# Altium schematic symbol library Wurth_Elektronik_Electromechanic_Wire_to_Board_Connectors_rev16a.SCHLIB: 662 symbols (part 8 of 10)
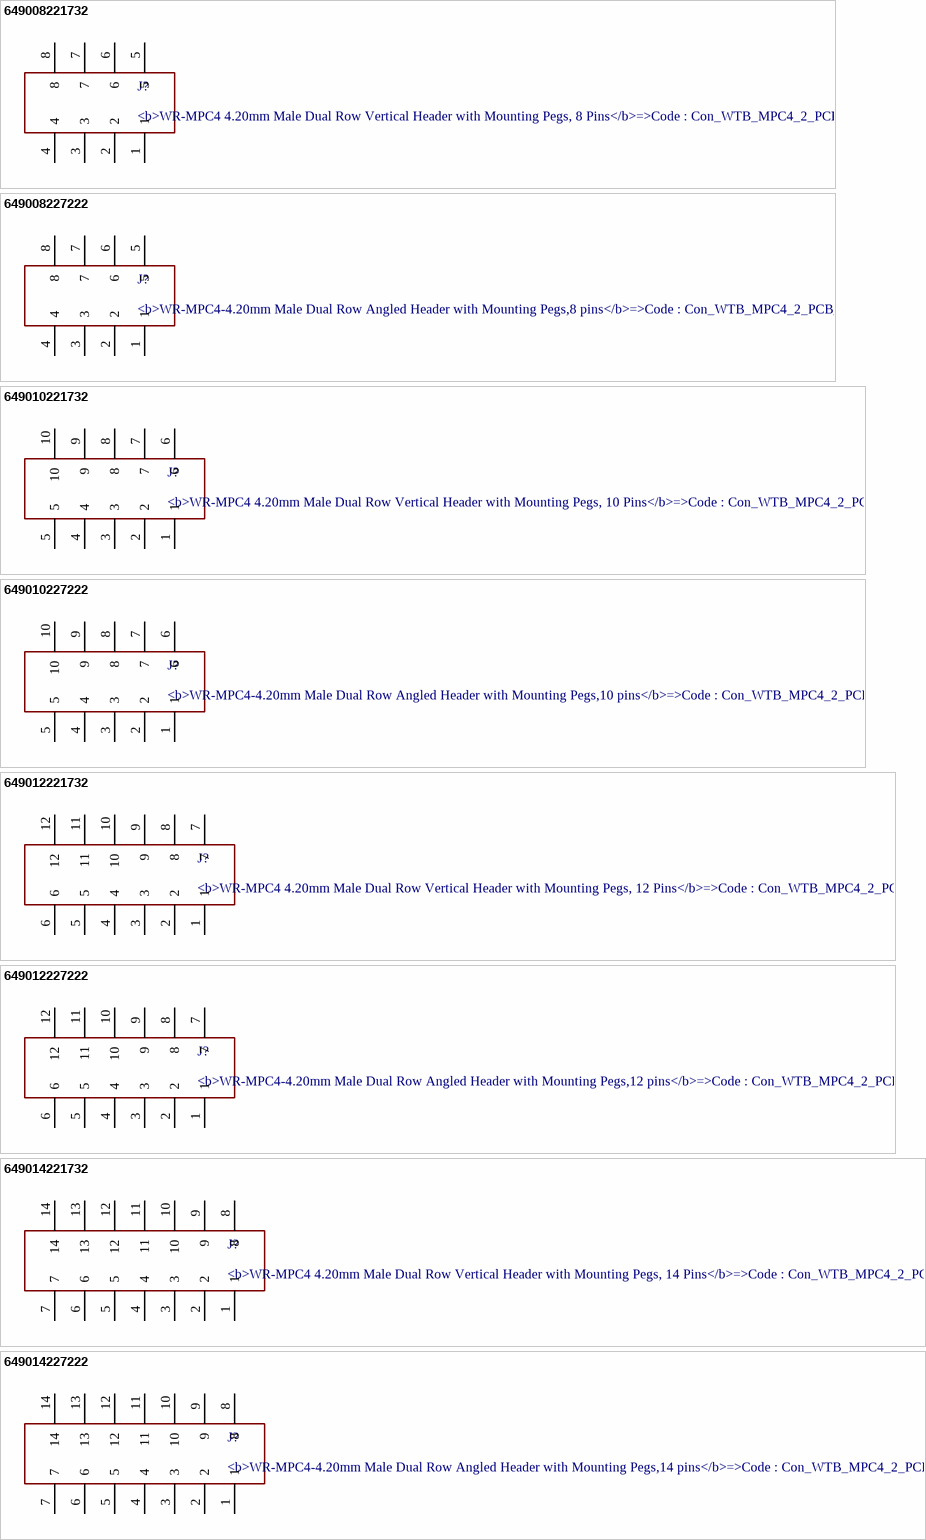
[diagram p69: symbols 649008221732 to 649014227222]

## 649008221732
designator J?, comment <b>WR-MPC4 4.20mm Male Dual Row Vertical Header with Mounting Pegs, 8 Pins</b>=>Code : Con_WTB_MPC4_2_PCB_649008221732 / <br><a href="http://katalog.we-online.de/media/thumbs2/eican/thb_Con_WTB_MPC4_2_PCB_6490xx221732_pf2.jpg" title="Enlarge picture"> / <img src="http://katalog.we-online.de/media/thumbs2/eican/thb_Con_WTB_MPC4_2_PCB_6490xx221732_pf2.jpg"  width="320"></a><p> / Details see: <a href="http://katalog.we-online.de/en/em/649_0xx_221_732">http://katalog.we-online.de/en/em/649_0xx_221_732</a><p> / Created 2014-06-06, Karrer Zheng<br> / 2014 (C) Würth Elektronik
footprint 649008221732
pins: 1, 2, 3, 4, 5, 6, 7, 8

## 649008227222
designator J?, comment <b>WR-MPC4-4.20mm Male Dual Row Angled Header with Mounting Pegs,8 pins</b>=>Code : Con_WTB_MPC4_2_PCB_649008227222 / <br><a href="http://katalog.we-online.de/media/thumbs2/eican/thb_Con_WTB_MPC4_2_PCB_6490xx227222_pf2.jpg" title="Enlarge picture"> / <img src="http://katalog.we-online.de/media/thumbs2/eican/thb_Con_WTB_MPC4_2_PCB_6490xx227222_pf2.jpg"  width="320"></a><p> / Details see: <a href="http://katalog.we-online.de/en/em/649_0xx_227_222">http://katalog.we-online.de/en/em/649_0xx_227_222</a><p> / Created 2014-06-06, Karrer Zheng<br> / 2014 (C) Würth Elektronik
footprint 649008227222
pins: 1, 2, 3, 4, 5, 6, 7, 8

## 649010221732
designator J?, comment <b>WR-MPC4 4.20mm Male Dual Row Vertical Header with Mounting Pegs, 10 Pins</b>=>Code : Con_WTB_MPC4_2_PCB_649010221732 / <br><a href="http://katalog.we-online.de/media/thumbs2/eican/thb_Con_WTB_MPC4_2_PCB_6490xx221732_pf2.jpg" title="Enlarge picture"> / <img src="http://katalog.we-online.de/media/thumbs2/eican/thb_Con_WTB_MPC4_2_PCB_6490xx221732_pf2.jpg"  width="320"></a><p> / Details see: <a href="http://katalog.we-online.de/en/em/649_0xx_221_732">http://katalog.we-online.de/en/em/649_0xx_221_732</a><p> / Created 2014-06-06, Karrer Zheng<br> / 2014 (C) Würth Elektronik
footprint 649010221732
pins: 1, 2, 3, 4, 5, 6, 7, 8, 9, 10

## 649010227222
designator J?, comment <b>WR-MPC4-4.20mm Male Dual Row Angled Header with Mounting Pegs,10 pins</b>=>Code : Con_WTB_MPC4_2_PCB_649010227222 / <br><a href="http://katalog.we-online.de/media/thumbs2/eican/thb_Con_WTB_MPC4_2_PCB_6490xx227222_pf2.jpg" title="Enlarge picture"> / <img src="http://katalog.we-online.de/media/thumbs2/eican/thb_Con_WTB_MPC4_2_PCB_6490xx227222_pf2.jpg"  width="320"></a><p> / Details see: <a href="http://katalog.we-online.de/en/em/649_0xx_227_222">http://katalog.we-online.de/en/em/649_0xx_227_222</a><p> / Created 2014-06-06, Karrer Zheng<br> / 2014 (C) Würth Elektronik
footprint 649010227222
pins: 1, 2, 3, 4, 5, 6, 7, 8, 9, 10

## 649012221732
designator J?, comment <b>WR-MPC4 4.20mm Male Dual Row Vertical Header with Mounting Pegs, 12 Pins</b>=>Code : Con_WTB_MPC4_2_PCB_649012221732 / <br><a href="http://katalog.we-online.de/media/thumbs2/eican/thb_Con_WTB_MPC4_2_PCB_6490xx221732_pf2.jpg" title="Enlarge picture"> / <img src="http://katalog.we-online.de/media/thumbs2/eican/thb_Con_WTB_MPC4_2_PCB_6490xx221732_pf2.jpg"  width="320"></a><p> / Details see: <a href="http://katalog.we-online.de/en/em/649_0xx_221_732">http://katalog.we-online.de/en/em/649_0xx_221_732</a><p> / Created 2014-06-06, Karrer Zheng<br> / 2014 (C) Würth Elektronik
footprint 649012221732
pins: 1, 2, 3, 4, 5, 6, 7, 8, 9, 10, 11, 12

## 649012227222
designator J?, comment <b>WR-MPC4-4.20mm Male Dual Row Angled Header with Mounting Pegs,12 pins</b>=>Code : Con_WTB_MPC4_2_PCB_649012227222 / <br><a href="http://katalog.we-online.de/media/thumbs2/eican/thb_Con_WTB_MPC4_2_PCB_6490xx227222_pf2.jpg" title="Enlarge picture"> / <img src="http://katalog.we-online.de/media/thumbs2/eican/thb_Con_WTB_MPC4_2_PCB_6490xx227222_pf2.jpg"  width="320"></a><p> / Details see: <a href="http://katalog.we-online.de/en/em/649_0xx_227_222">http://katalog.we-online.de/en/em/649_0xx_227_222</a><p> / Created 2014-06-06, Karrer Zheng<br> / 2014 (C) Würth Elektronik
footprint 649012227222
pins: 1, 2, 3, 4, 5, 6, 7, 8, 9, 10, 11, 12

## 649014221732
designator J?, comment <b>WR-MPC4 4.20mm Male Dual Row Vertical Header with Mounting Pegs, 14 Pins</b>=>Code : Con_WTB_MPC4_2_PCB_649014221732 / <br><a href="http://katalog.we-online.de/media/thumbs2/eican/thb_Con_WTB_MPC4_2_PCB_6490xx221732_pf2.jpg" title="Enlarge picture"> / <img src="http://katalog.we-online.de/media/thumbs2/eican/thb_Con_WTB_MPC4_2_PCB_6490xx221732_pf2.jpg"  width="320"></a><p> / Details see: <a href="http://katalog.we-online.de/en/em/649_0xx_221_732">http://katalog.we-online.de/en/em/649_0xx_221_732</a><p> / Created 2014-06-06, Karrer Zheng<br> / 2014 (C) Würth Elektronik
footprint 649014221732
pins: 1, 2, 3, 4, 5, 6, 7, 8, 9, 10, 11, 12, 13, 14

## 649014227222
designator J?, comment <b>WR-MPC4-4.20mm Male Dual Row Angled Header with Mounting Pegs,14 pins</b>=>Code : Con_WTB_MPC4_2_PCB_649014227222 / <br><a href="http://katalog.we-online.de/media/thumbs2/eican/thb_Con_WTB_MPC4_2_PCB_6490xx227222_pf2.jpg" title="Enlarge picture"> / <img src="http://katalog.we-online.de/media/thumbs2/eican/thb_Con_WTB_MPC4_2_PCB_6490xx227222_pf2.jpg"  width="320"></a><p> / Details see: <a href="http://katalog.we-online.de/en/em/649_0xx_227_222">http://katalog.we-online.de/en/em/649_0xx_227_222</a><p> / Created 2014-06-06, Karrer Zheng<br> / 2014 (C) Würth Elektronik
footprint 649014227222
pins: 1, 2, 3, 4, 5, 6, 7, 8, 9, 10, 11, 12, 13, 14

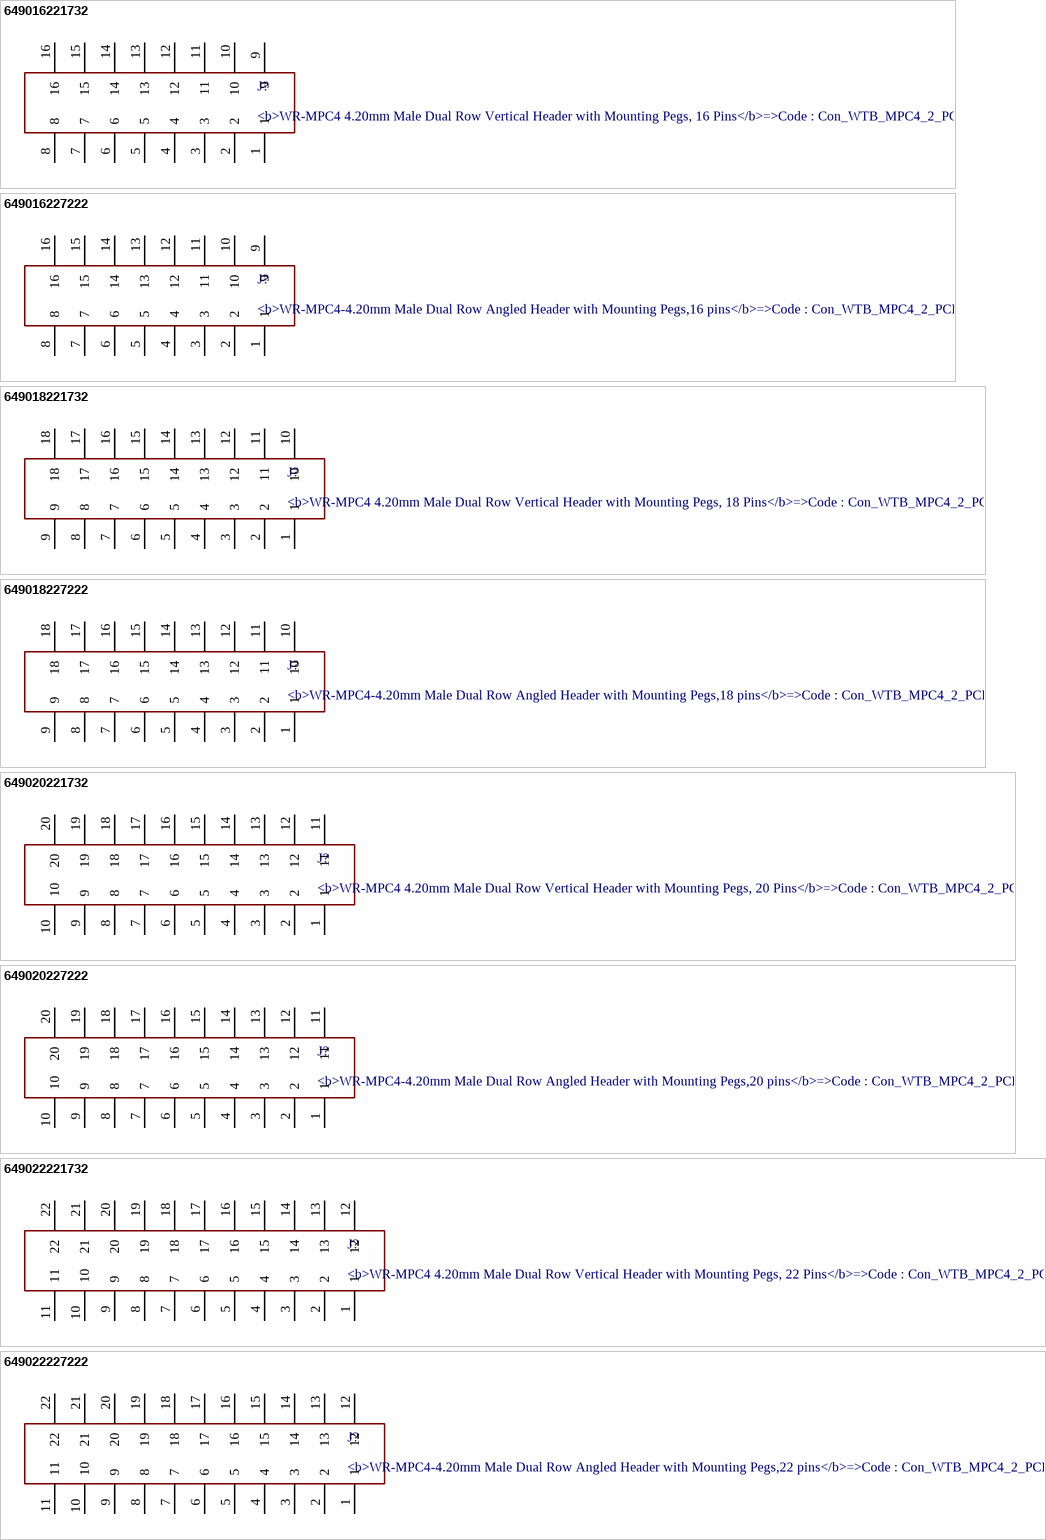
[diagram p46: symbols 649016221732 to 649022227222]

## 649016221732
designator J?, comment <b>WR-MPC4 4.20mm Male Dual Row Vertical Header with Mounting Pegs, 16 Pins</b>=>Code : Con_WTB_MPC4_2_PCB_649016221732 / <br><a href="http://katalog.we-online.de/media/thumbs2/eican/thb_Con_WTB_MPC4_2_PCB_6490xx221732_pf2.jpg" title="Enlarge picture"> / <img src="http://katalog.we-online.de/media/thumbs2/eican/thb_Con_WTB_MPC4_2_PCB_6490xx221732_pf2.jpg"  width="320"></a><p> / Details see: <a href="http://katalog.we-online.de/en/em/649_0xx_221_732">http://katalog.we-online.de/en/em/649_0xx_221_732</a><p> / Created 2014-06-06, Karrer Zheng<br> / 2014 (C) Würth Elektronik
footprint 649016221732
pins: 1, 2, 3, 4, 5, 6, 7, 8, 9, 10, 11, 12, 13, 14, 15, 16

## 649016227222
designator J?, comment <b>WR-MPC4-4.20mm Male Dual Row Angled Header with Mounting Pegs,16 pins</b>=>Code : Con_WTB_MPC4_2_PCB_649016227222 / <br><a href="http://katalog.we-online.de/media/thumbs2/eican/thb_Con_WTB_MPC4_2_PCB_6490xx227222_pf2.jpg" title="Enlarge picture"> / <img src="http://katalog.we-online.de/media/thumbs2/eican/thb_Con_WTB_MPC4_2_PCB_6490xx227222_pf2.jpg"  width="320"></a><p> / Details see: <a href="http://katalog.we-online.de/en/em/649_0xx_227_222">http://katalog.we-online.de/en/em/649_0xx_227_222</a><p> / Created 2014-06-06, Karrer Zheng<br> / 2014 (C) Würth Elektronik
footprint 649016227222
pins: 1, 2, 3, 4, 5, 6, 7, 8, 9, 10, 11, 12, 13, 14, 15, 16

## 649018221732
designator J?, comment <b>WR-MPC4 4.20mm Male Dual Row Vertical Header with Mounting Pegs, 18 Pins</b>=>Code : Con_WTB_MPC4_2_PCB_649018221732 / <br><a href="http://katalog.we-online.de/media/thumbs2/eican/thb_Con_WTB_MPC4_2_PCB_6490xx221732_pf2.jpg" title="Enlarge picture"> / <img src="http://katalog.we-online.de/media/thumbs2/eican/thb_Con_WTB_MPC4_2_PCB_6490xx221732_pf2.jpg"  width="320"></a><p> / Details see: <a href="http://katalog.we-online.de/en/em/649_0xx_221_732">http://katalog.we-online.de/en/em/649_0xx_221_732</a><p> / Created 2014-06-06, Karrer Zheng<br> / 2014 (C) Würth Elektronik
footprint 649018221732
pins: 1, 2, 3, 4, 5, 6, 7, 8, 9, 10, 11, 12, 13, 14, 15, 16, 17, 18

## 649018227222
designator J?, comment <b>WR-MPC4-4.20mm Male Dual Row Angled Header with Mounting Pegs,18 pins</b>=>Code : Con_WTB_MPC4_2_PCB_649018227222 / <br><a href="http://katalog.we-online.de/media/thumbs2/eican/thb_Con_WTB_MPC4_2_PCB_6490xx227222_pf2.jpg" title="Enlarge picture"> / <img src="http://katalog.we-online.de/media/thumbs2/eican/thb_Con_WTB_MPC4_2_PCB_6490xx227222_pf2.jpg"  width="320"></a><p> / Details see: <a href="http://katalog.we-online.de/en/em/649_0xx_227_222">http://katalog.we-online.de/en/em/649_0xx_227_222</a><p> / Created 2014-06-06, Karrer Zheng<br> / 2014 (C) Würth Elektronik
footprint 649018227222
pins: 1, 2, 3, 4, 5, 6, 7, 8, 9, 10, 11, 12, 13, 14, 15, 16, 17, 18

## 649020221732
designator J?, comment <b>WR-MPC4 4.20mm Male Dual Row Vertical Header with Mounting Pegs, 20 Pins</b>=>Code : Con_WTB_MPC4_2_PCB_649020221732 / <br><a href="http://katalog.we-online.de/media/thumbs2/eican/thb_Con_WTB_MPC4_2_PCB_6490xx221732_pf2.jpg" title="Enlarge picture"> / <img src="http://katalog.we-online.de/media/thumbs2/eican/thb_Con_WTB_MPC4_2_PCB_6490xx221732_pf2.jpg"  width="320"></a><p> / Details see: <a href="http://katalog.we-online.de/en/em/649_0xx_221_732">http://katalog.we-online.de/en/em/649_0xx_221_732</a><p> / Created 2014-06-06, Karrer Zheng<br> / 2014 (C) Würth Elektronik
footprint 649020221732
pins: 1, 2, 3, 4, 5, 6, 7, 8, 9, 10, 11, 12, 13, 14, 15, 16, 17, 18, 19, 20

## 649020227222
designator J?, comment <b>WR-MPC4-4.20mm Male Dual Row Angled Header with Mounting Pegs,20 pins</b>=>Code : Con_WTB_MPC4_2_PCB_649020227222 / <br><a href="http://katalog.we-online.de/media/thumbs2/eican/thb_Con_WTB_MPC4_2_PCB_6490xx227222_pf2.jpg" title="Enlarge picture"> / <img src="http://katalog.we-online.de/media/thumbs2/eican/thb_Con_WTB_MPC4_2_PCB_6490xx227222_pf2.jpg"  width="320"></a><p> / Details see: <a href="http://katalog.we-online.de/en/em/649_0xx_227_222">http://katalog.we-online.de/en/em/649_0xx_227_222</a><p> / Created 2014-06-06, Karrer Zheng<br> / 2014 (C) Würth Elektronik
footprint 649020227222
pins: 1, 2, 3, 4, 5, 6, 7, 8, 9, 10, 11, 12, 13, 14, 15, 16, 17, 18, 19, 20

## 649022221732
designator J?, comment <b>WR-MPC4 4.20mm Male Dual Row Vertical Header with Mounting Pegs, 22 Pins</b>=>Code : Con_WTB_MPC4_2_PCB_649022221732 / <br><a href="http://katalog.we-online.de/media/thumbs2/eican/thb_Con_WTB_MPC4_2_PCB_6490xx221732_pf2.jpg" title="Enlarge picture"> / <img src="http://katalog.we-online.de/media/thumbs2/eican/thb_Con_WTB_MPC4_2_PCB_6490xx221732_pf2.jpg"  width="320"></a><p> / Details see: <a href="http://katalog.we-online.de/en/em/649_0xx_221_732">http://katalog.we-online.de/en/em/649_0xx_221_732</a><p> / Created 2014-06-06, Karrer Zheng<br> / 2014 (C) Würth Elektronik
footprint 649022221732
pins: 1, 2, 3, 4, 5, 6, 7, 8, 9, 10, 11, 12, 13, 14, 15, 16, 17, 18, 19, 20, 21, 22

## 649022227222
designator J?, comment <b>WR-MPC4-4.20mm Male Dual Row Angled Header with Mounting Pegs,22 pins</b>=>Code : Con_WTB_MPC4_2_PCB_649022227222 / <br><a href="http://katalog.we-online.de/media/thumbs2/eican/thb_Con_WTB_MPC4_2_PCB_6490xx227222_pf2.jpg" title="Enlarge picture"> / <img src="http://katalog.we-online.de/media/thumbs2/eican/thb_Con_WTB_MPC4_2_PCB_6490xx227222_pf2.jpg"  width="320"></a><p> / Details see: <a href="http://katalog.we-online.de/en/em/649_0xx_227_222">http://katalog.we-online.de/en/em/649_0xx_227_222</a><p> / Created 2014-06-06, Karrer Zheng<br> / 2014 (C) Würth Elektronik
footprint 649022227222
pins: 1, 2, 3, 4, 5, 6, 7, 8, 9, 10, 11, 12, 13, 14, 15, 16, 17, 18, 19, 20, 21, 22

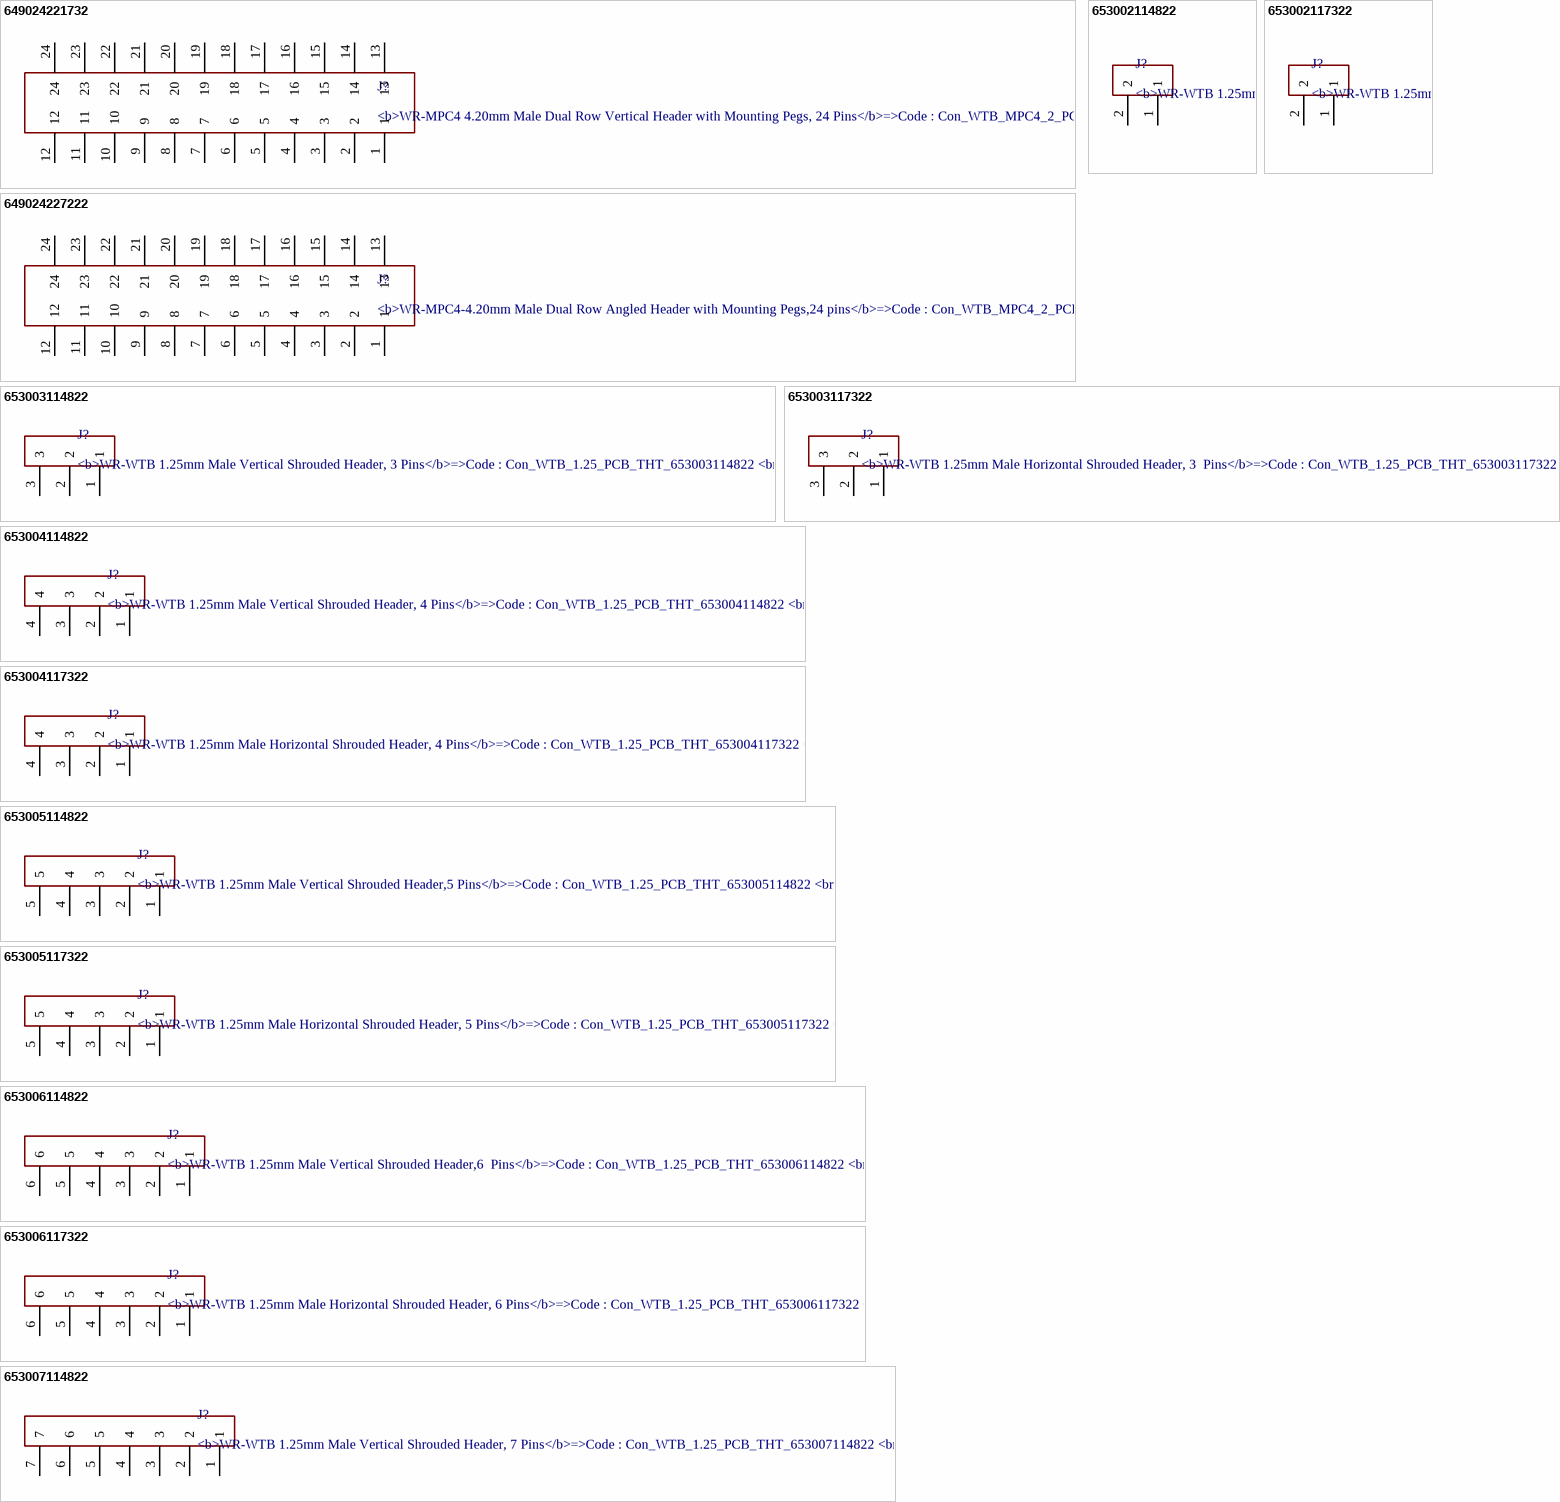
[diagram p47: symbols 649024221732 to 653007114822]

## 649024221732
designator J?, comment <b>WR-MPC4 4.20mm Male Dual Row Vertical Header with Mounting Pegs, 24 Pins</b>=>Code : Con_WTB_MPC4_2_PCB_649024221732 / <br><a href="http://katalog.we-online.de/media/thumbs2/eican/thb_Con_WTB_MPC4_2_PCB_6490xx221732_pf2.jpg" title="Enlarge picture"> / <img src="http://katalog.we-online.de/media/thumbs2/eican/thb_Con_WTB_MPC4_2_PCB_6490xx221732_pf2.jpg"  width="320"></a><p> / Details see: <a href="http://katalog.we-online.de/en/em/649_0xx_221_732">http://katalog.we-online.de/en/em/649_0xx_221_732</a><p> / Created 2014-06-06, Karrer Zheng<br> / 2014 (C) Würth Elektronik
footprint 649024221732
pins: 1, 2, 3, 4, 5, 6, 7, 8, 9, 10, 11, 12, 13, 14, 15, 16, 17, 18, 19, 20, 21, 22, 23, 24

## 649024227222
designator J?, comment <b>WR-MPC4-4.20mm Male Dual Row Angled Header with Mounting Pegs,24 pins</b>=>Code : Con_WTB_MPC4_2_PCB_649024227222 / <br><a href="http://katalog.we-online.de/media/thumbs2/eican/thb_Con_WTB_MPC4_2_PCB_6490xx227222_pf2.jpg" title="Enlarge picture"> / <img src="http://katalog.we-online.de/media/thumbs2/eican/thb_Con_WTB_MPC4_2_PCB_6490xx227222_pf2.jpg"  width="320"></a><p> / Details see: <a href="http://katalog.we-online.de/en/em/649_0xx_227_222">http://katalog.we-online.de/en/em/649_0xx_227_222</a><p> / Created 2014-06-06, Karrer Zheng<br> / 2014 (C) Würth Elektronik
footprint 649024227222
pins: 1, 2, 3, 4, 5, 6, 7, 8, 9, 10, 11, 12, 13, 14, 15, 16, 17, 18, 19, 20, 21, 22, 23, 24

## 653002114822
designator J?, comment <b>WR-WTB 1.25mm Male Vertical Shrouded Header, 2 Pins</b>=>Code : Con_WTB_1.25_PCB_THT_653002114822 / <br><a href="http://katalog.we-online.de/media/thumbs2/eican/thb_Con_WTB_1.25_PCB_THT_6530xx114822_pf2.jpg" title="Enlarge picture"> / <img src="http://katalog.we-online.de/media/thumbs2/eican/thb_Con_WTB_1.25_PCB_THT_6530xx114822_pf2.jpg"  width="320"></a><p> / Details see: <a href="http://katalog.we-online.de/en/em/653_0xx_114_822">http://katalog.we-online.de/en/em/653_0xx_114_822</a><p> / Created 2014-06-06, Karrer Zheng<br> / 2014 (C) Würth Elektronik
footprint 653002114822
pins: 1, 2

## 653002117322
designator J?, comment <b>WR-WTB 1.25mm Male Horizontal Shrouded Header, 2 Pins</b>=>Code : Con_WTB_1.25_PCB_THT_653002117322 / <br><a href="http://katalog.we-online.de/media/thumbs2/eican/thb_Con_WTB_1.25_PCB_THT_6530xx117322_pf2.jpg" title="Enlarge picture"> / <img src="http://katalog.we-online.de/media/thumbs2/eican/thb_Con_WTB_1.25_PCB_THT_6530xx117322_pf2.jpg"  width="320"></a><p> / Details see: <a href="http://katalog.we-online.de/en/em/653_0xx_117_322">http://katalog.we-online.de/en/em/653_0xx_117_322</a><p> / Created 2014-06-06, Karrer Zheng<br> / 2014 (C) Würth Elektronik
footprint 653002117322
pins: 1, 2

## 653003114822
designator J?, comment <b>WR-WTB 1.25mm Male Vertical Shrouded Header, 3 Pins</b>=>Code : Con_WTB_1.25_PCB_THT_653003114822 / <br><a href="http://katalog.we-online.de/media/thumbs2/eican/thb_Con_WTB_1.25_PCB_THT_6530xx114822_pf2.jpg" title="Enlarge picture"> / <img src="http://katalog.we-online.de/media/thumbs2/eican/thb_Con_WTB_1.25_PCB_THT_6530xx114822_pf2.jpg"  width="320"></a><p> / Details see: <a href="http://katalog.we-online.de/en/em/653_0xx_114_822">http://katalog.we-online.de/en/em/653_0xx_114_822</a><p> / Created 2014-06-06, Karrer Zheng<br> / 2014 (C) Würth Elektronik
footprint 653003114822
pins: 1, 2, 3

## 653003117322
designator J?, comment <b>WR-WTB 1.25mm Male Horizontal Shrouded Header, 3  Pins</b>=>Code : Con_WTB_1.25_PCB_THT_653003117322 / <br><a href="http://katalog.we-online.de/media/thumbs2/eican/thb_Con_WTB_1.25_PCB_THT_6530xx117322_pf2.jpg" title="Enlarge picture"> / <img src="http://katalog.we-online.de/media/thumbs2/eican/thb_Con_WTB_1.25_PCB_THT_6530xx117322_pf2.jpg"  width="320"></a><p> / Details see: <a href="http://katalog.we-online.de/en/em/653_0xx_117_322">http://katalog.we-online.de/en/em/653_0xx_117_322</a><p> / Created 2014-06-06, Karrer Zheng<br> / 2014 (C) Würth Elektronik
footprint 653003117322
pins: 1, 2, 3

## 653004114822
designator J?, comment <b>WR-WTB 1.25mm Male Vertical Shrouded Header, 4 Pins</b>=>Code : Con_WTB_1.25_PCB_THT_653004114822 / <br><a href="http://katalog.we-online.de/media/thumbs2/eican/thb_Con_WTB_1.25_PCB_THT_6530xx114822_pf2.jpg" title="Enlarge picture"> / <img src="http://katalog.we-online.de/media/thumbs2/eican/thb_Con_WTB_1.25_PCB_THT_6530xx114822_pf2.jpg"  width="320"></a><p> / Details see: <a href="http://katalog.we-online.de/en/em/653_0xx_114_822">http://katalog.we-online.de/en/em/653_0xx_114_822</a><p> / Created 2014-06-06, Karrer Zheng<br> / 2014 (C) Würth Elektronik
footprint 653004114822
pins: 1, 2, 3, 4

## 653004117322
designator J?, comment <b>WR-WTB 1.25mm Male Horizontal Shrouded Header, 4 Pins</b>=>Code : Con_WTB_1.25_PCB_THT_653004117322 / <br><a href="http://katalog.we-online.de/media/thumbs2/eican/thb_Con_WTB_1.25_PCB_THT_6530xx117322_pf2.jpg" title="Enlarge picture"> / <img src="http://katalog.we-online.de/media/thumbs2/eican/thb_Con_WTB_1.25_PCB_THT_6530xx117322_pf2.jpg"  width="320"></a><p> / Details see: <a href="http://katalog.we-online.de/en/em/653_0xx_117_322">http://katalog.we-online.de/en/em/653_0xx_117_322</a><p> / Created 2014-06-06, Karrer Zheng<br> / 2014 (C) Würth Elektronik
footprint 653004117322
pins: 1, 2, 3, 4

## 653005114822
designator J?, comment <b>WR-WTB 1.25mm Male Vertical Shrouded Header,5 Pins</b>=>Code : Con_WTB_1.25_PCB_THT_653005114822 / <br><a href="http://katalog.we-online.de/media/thumbs2/eican/thb_Con_WTB_1.25_PCB_THT_6530xx114822_pf2.jpg" title="Enlarge picture"> / <img src="http://katalog.we-online.de/media/thumbs2/eican/thb_Con_WTB_1.25_PCB_THT_6530xx114822_pf2.jpg"  width="320"></a><p> / Details see: <a href="http://katalog.we-online.de/en/em/653_0xx_114_822">http://katalog.we-online.de/en/em/653_0xx_114_822</a><p> / Created 2014-06-06, Karrer Zheng<br> / 2014 (C) Würth Elektronik
footprint 653005114822
pins: 1, 2, 3, 4, 5

## 653005117322
designator J?, comment <b>WR-WTB 1.25mm Male Horizontal Shrouded Header, 5 Pins</b>=>Code : Con_WTB_1.25_PCB_THT_653005117322 / <br><a href="http://katalog.we-online.de/media/thumbs2/eican/thb_Con_WTB_1.25_PCB_THT_6530xx117322_pf2.jpg" title="Enlarge picture"> / <img src="http://katalog.we-online.de/media/thumbs2/eican/thb_Con_WTB_1.25_PCB_THT_6530xx117322_pf2.jpg"  width="320"></a><p> / Details see: <a href="http://katalog.we-online.de/en/em/653_0xx_117_322">http://katalog.we-online.de/en/em/653_0xx_117_322</a><p> / Created 2014-06-06, Karrer Zheng<br> / 2014 (C) Würth Elektronik
footprint 653005117322
pins: 1, 2, 3, 4, 5

## 653006114822
designator J?, comment <b>WR-WTB 1.25mm Male Vertical Shrouded Header,6  Pins</b>=>Code : Con_WTB_1.25_PCB_THT_653006114822 / <br><a href="http://katalog.we-online.de/media/thumbs2/eican/thb_Con_WTB_1.25_PCB_THT_6530xx114822_pf2.jpg" title="Enlarge picture"> / <img src="http://katalog.we-online.de/media/thumbs2/eican/thb_Con_WTB_1.25_PCB_THT_6530xx114822_pf2.jpg"  width="320"></a><p> / Details see: <a href="http://katalog.we-online.de/en/em/653_0xx_114_822">http://katalog.we-online.de/en/em/653_0xx_114_822</a><p> / Created 2014-06-06, Karrer Zheng<br> / 2014 (C) Würth Elektronik
footprint 653006114822
pins: 1, 2, 3, 4, 5, 6

## 653006117322
designator J?, comment <b>WR-WTB 1.25mm Male Horizontal Shrouded Header, 6 Pins</b>=>Code : Con_WTB_1.25_PCB_THT_653006117322 / <br><a href="http://katalog.we-online.de/media/thumbs2/eican/thb_Con_WTB_1.25_PCB_THT_6530xx117322_pf2.jpg" title="Enlarge picture"> / <img src="http://katalog.we-online.de/media/thumbs2/eican/thb_Con_WTB_1.25_PCB_THT_6530xx117322_pf2.jpg"  width="320"></a><p> / Details see: <a href="http://katalog.we-online.de/en/em/653_0xx_117_322">http://katalog.we-online.de/en/em/653_0xx_117_322</a><p> / Created 2014-06-06, Karrer Zheng<br> / 2014 (C) Würth Elektronik
footprint 653006117322
pins: 1, 2, 3, 4, 5, 6

## 653007114822
designator J?, comment <b>WR-WTB 1.25mm Male Vertical Shrouded Header, 7 Pins</b>=>Code : Con_WTB_1.25_PCB_THT_653007114822 / <br><a href="http://katalog.we-online.de/media/thumbs2/eican/thb_Con_WTB_1.25_PCB_THT_6530xx114822_pf2.jpg" title="Enlarge picture"> / <img src="http://katalog.we-online.de/media/thumbs2/eican/thb_Con_WTB_1.25_PCB_THT_6530xx114822_pf2.jpg"  width="320"></a><p> / Details see: <a href="http://katalog.we-online.de/en/em/653_0xx_114_822">http://katalog.we-online.de/en/em/653_0xx_114_822</a><p> / Created 2014-06-06, Karrer Zheng<br> / 2014 (C) Würth Elektronik
footprint 653007114822
pins: 1, 2, 3, 4, 5, 6, 7

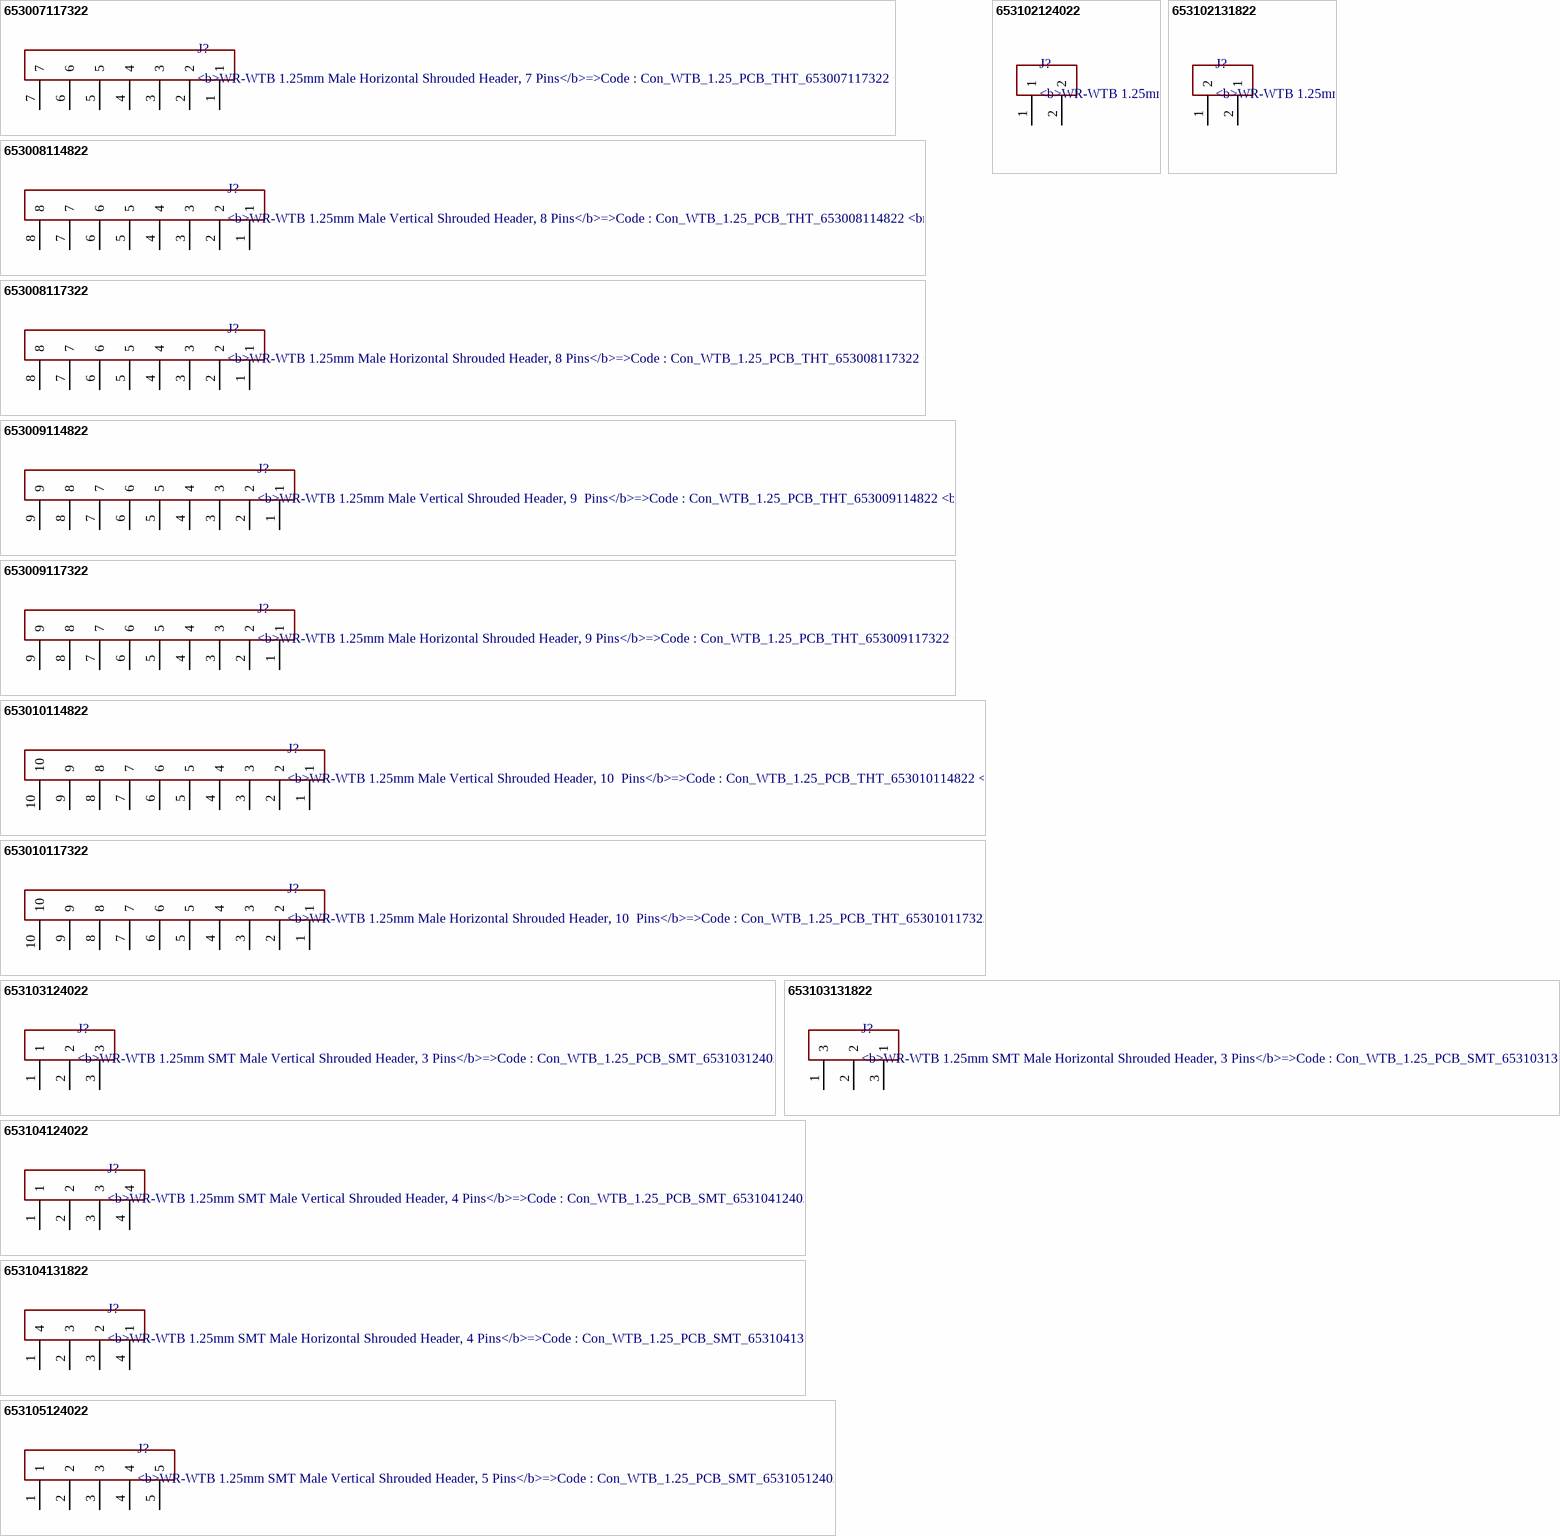
[diagram p48: symbols 653007117322 to 653105124022]

## 653007117322
designator J?, comment <b>WR-WTB 1.25mm Male Horizontal Shrouded Header, 7 Pins</b>=>Code : Con_WTB_1.25_PCB_THT_653007117322 / <br><a href="http://katalog.we-online.de/media/thumbs2/eican/thb_Con_WTB_1.25_PCB_THT_6530xx117322_pf2.jpg" title="Enlarge picture"> / <img src="http://katalog.we-online.de/media/thumbs2/eican/thb_Con_WTB_1.25_PCB_THT_6530xx117322_pf2.jpg"  width="320"></a><p> / Details see: <a href="http://katalog.we-online.de/en/em/653_0xx_117_322">http://katalog.we-online.de/en/em/653_0xx_117_322</a><p> / Created 2014-06-06, Karrer Zheng<br> / 2014 (C) Würth Elektronik
footprint 653007117322
pins: 1, 2, 3, 4, 5, 6, 7

## 653008114822
designator J?, comment <b>WR-WTB 1.25mm Male Vertical Shrouded Header, 8 Pins</b>=>Code : Con_WTB_1.25_PCB_THT_653008114822 / <br><a href="http://katalog.we-online.de/media/thumbs2/eican/thb_Con_WTB_1.25_PCB_THT_6530xx114822_pf2.jpg" title="Enlarge picture"> / <img src="http://katalog.we-online.de/media/thumbs2/eican/thb_Con_WTB_1.25_PCB_THT_6530xx114822_pf2.jpg"  width="320"></a><p> / Details see: <a href="http://katalog.we-online.de/en/em/653_0xx_114_822">http://katalog.we-online.de/en/em/653_0xx_114_822</a><p> / Created 2014-06-06, Karrer Zheng<br> / 2014 (C) Würth Elektronik
footprint 653008114822
pins: 1, 2, 3, 4, 5, 6, 7, 8

## 653008117322
designator J?, comment <b>WR-WTB 1.25mm Male Horizontal Shrouded Header, 8 Pins</b>=>Code : Con_WTB_1.25_PCB_THT_653008117322 / <br><a href="http://katalog.we-online.de/media/thumbs2/eican/thb_Con_WTB_1.25_PCB_THT_6530xx117322_pf2.jpg" title="Enlarge picture"> / <img src="http://katalog.we-online.de/media/thumbs2/eican/thb_Con_WTB_1.25_PCB_THT_6530xx117322_pf2.jpg"  width="320"></a><p> / Details see: <a href="http://katalog.we-online.de/en/em/653_0xx_117_322">http://katalog.we-online.de/en/em/653_0xx_117_322</a><p> / Created 2014-06-06, Karrer Zheng<br> / 2014 (C) Würth Elektronik
footprint 653008117322
pins: 1, 2, 3, 4, 5, 6, 7, 8

## 653009114822
designator J?, comment <b>WR-WTB 1.25mm Male Vertical Shrouded Header, 9  Pins</b>=>Code : Con_WTB_1.25_PCB_THT_653009114822 / <br><a href="http://katalog.we-online.de/media/thumbs2/eican/thb_Con_WTB_1.25_PCB_THT_6530xx114822_pf2.jpg" title="Enlarge picture"> / <img src="http://katalog.we-online.de/media/thumbs2/eican/thb_Con_WTB_1.25_PCB_THT_6530xx114822_pf2.jpg"  width="320"></a><p> / Details see: <a href="http://katalog.we-online.de/en/em/653_0xx_114_822">http://katalog.we-online.de/en/em/653_0xx_114_822</a><p> / Created 2014-06-06, Karrer Zheng<br> / 2014 (C) Würth Elektronik
footprint 653009114822
pins: 1, 2, 3, 4, 5, 6, 7, 8, 9

## 653009117322
designator J?, comment <b>WR-WTB 1.25mm Male Horizontal Shrouded Header, 9 Pins</b>=>Code : Con_WTB_1.25_PCB_THT_653009117322 / <br><a href="http://katalog.we-online.de/media/thumbs2/eican/thb_Con_WTB_1.25_PCB_THT_6530xx117322_pf2.jpg" title="Enlarge picture"> / <img src="http://katalog.we-online.de/media/thumbs2/eican/thb_Con_WTB_1.25_PCB_THT_6530xx117322_pf2.jpg"  width="320"></a><p> / Details see: <a href="http://katalog.we-online.de/en/em/653_0xx_117_322">http://katalog.we-online.de/en/em/653_0xx_117_322</a><p> / Created 2014-06-06, Karrer Zheng<br> / 2014 (C) Würth Elektronik
footprint 653009117322
pins: 1, 2, 3, 4, 5, 6, 7, 8, 9

## 653010114822
designator J?, comment <b>WR-WTB 1.25mm Male Vertical Shrouded Header, 10  Pins</b>=>Code : Con_WTB_1.25_PCB_THT_653010114822 / <br><a href="http://katalog.we-online.de/media/thumbs2/eican/thb_Con_WTB_1.25_PCB_THT_6530xx114822_pf2.jpg" title="Enlarge picture"> / <img src="http://katalog.we-online.de/media/thumbs2/eican/thb_Con_WTB_1.25_PCB_THT_6530xx114822_pf2.jpg"  width="320"></a><p> / Details see: <a href="http://katalog.we-online.de/en/em/653_0xx_114_822">http://katalog.we-online.de/en/em/653_0xx_114_822</a><p> / Created 2014-06-06, Karrer Zheng<br> / 2014 (C) Würth Elektronik
footprint 653010114822
pins: 1, 2, 3, 4, 5, 6, 7, 8, 9, 10

## 653010117322
designator J?, comment <b>WR-WTB 1.25mm Male Horizontal Shrouded Header, 10  Pins</b>=>Code : Con_WTB_1.25_PCB_THT_653010117322 / <br><a href="http://katalog.we-online.de/media/thumbs2/eican/thb_Con_WTB_1.25_PCB_THT_6530xx117322_pf2.jpg" title="Enlarge picture"> / <img src="http://katalog.we-online.de/media/thumbs2/eican/thb_Con_WTB_1.25_PCB_THT_6530xx117322_pf2.jpg"  width="320"></a><p> / Details see: <a href="http://katalog.we-online.de/en/em/653_0xx_117_322">http://katalog.we-online.de/en/em/653_0xx_117_322</a><p> / Created 2014-06-06, Karrer Zheng<br> / 2014 (C) Würth Elektronik
footprint 653010117322
pins: 1, 2, 3, 4, 5, 6, 7, 8, 9, 10

## 653102124022
designator J?, comment <b>WR-WTB 1.25mm SMT Male Vertical Shrouded Header, 2 Pins</b>=>Code : Con_WTB_1.25_PCB_SMT_653102124022 / <br><a href="http://katalog.we-online.de/media/thumbs2/eican/thb_Con_WTB_1.25_PCB_SMT_6530xx124022_pf2.psd.jpg" title="Enlarge picture"> / <img src="http://katalog.we-online.de/media/thumbs2/eican/thb_Con_WTB_1.25_PCB_SMT_6530xx124022_pf2.psd.jpg"  width="320"></a><p> / Details see: <a href="http://katalog.we-online.de/en/em/653_1xx_124_022">http://katalog.we-online.de/en/em/653_1xx_124_022</a><p> / Created 2014-06-06, Karrer Zheng<br> / 2014 (C) Würth Elektronik
footprint 653102124022
pins: 1, 2

## 653102131822
designator J?, comment <b>WR-WTB 1.25mm SMT Male Horizontal Shrouded Header, 2 Pins</b>=>Code : Con_WTB_1.25_PCB_SMT_653102131822 / <br><a href="http://katalog.we-online.de/media/thumbs2/eican/thb_Con_WTB_1.25_PCB_SMT_6531xx131822_pf2.jpg" title="Enlarge picture"> / <img src="http://katalog.we-online.de/media/thumbs2/eican/thb_Con_WTB_1.25_PCB_SMT_6531xx131822_pf2.jpg"  width="320"></a><p> / Details see: <a href="http://katalog.we-online.de/en/em/653_1xx_131_822">http://katalog.we-online.de/en/em/653_1xx_131_822</a><p> / Created 2014-06-06, Karrer Zheng<br> / 2014 (C) Würth Elektronik
footprint 653102131822
pins: 1 2, 2 1

## 653103124022
designator J?, comment <b>WR-WTB 1.25mm SMT Male Vertical Shrouded Header, 3 Pins</b>=>Code : Con_WTB_1.25_PCB_SMT_653103124022 / <br><a href="http://katalog.we-online.de/media/thumbs2/eican/thb_Con_WTB_1.25_PCB_SMT_6530xx124022_pf2.psd.jpg" title="Enlarge picture"> / <img src="http://katalog.we-online.de/media/thumbs2/eican/thb_Con_WTB_1.25_PCB_SMT_6530xx124022_pf2.psd.jpg"  width="320"></a><p> / Details see: <a href="http://katalog.we-online.de/en/em/653_1xx_124_022">http://katalog.we-online.de/en/em/653_1xx_124_022</a><p> / Created 2014-06-06, Karrer Zheng<br> / 2014 (C) Würth Elektronik
footprint 653103124022
pins: 1, 2, 3

## 653103131822
designator J?, comment <b>WR-WTB 1.25mm SMT Male Horizontal Shrouded Header, 3 Pins</b>=>Code : Con_WTB_1.25_PCB_SMT_653103131822 / <br><a href="http://katalog.we-online.de/media/thumbs2/eican/thb_Con_WTB_1.25_PCB_SMT_6531xx131822_pf2.jpg" title="Enlarge picture"> / <img src="http://katalog.we-online.de/media/thumbs2/eican/thb_Con_WTB_1.25_PCB_SMT_6531xx131822_pf2.jpg"  width="320"></a><p> / Details see: <a href="http://katalog.we-online.de/en/em/653_1xx_131_822">http://katalog.we-online.de/en/em/653_1xx_131_822</a><p> / Created 2014-06-06, Karrer Zheng<br> / 2014 (C) Würth Elektronik
footprint 653103131822
pins: 1 3, 2, 3 1

## 653104124022
designator J?, comment <b>WR-WTB 1.25mm SMT Male Vertical Shrouded Header, 4 Pins</b>=>Code : Con_WTB_1.25_PCB_SMT_653104124022 / <br><a href="http://katalog.we-online.de/media/thumbs2/eican/thb_Con_WTB_1.25_PCB_SMT_6530xx124022_pf2.psd.jpg" title="Enlarge picture"> / <img src="http://katalog.we-online.de/media/thumbs2/eican/thb_Con_WTB_1.25_PCB_SMT_6530xx124022_pf2.psd.jpg"  width="320"></a><p> / Details see: <a href="http://katalog.we-online.de/en/em/653_1xx_124_022">http://katalog.we-online.de/en/em/653_1xx_124_022</a><p> / Created 2014-06-06, Karrer Zheng<br> / 2014 (C) Würth Elektronik
footprint 653104124022
pins: 1, 2, 3, 4

## 653104131822
designator J?, comment <b>WR-WTB 1.25mm SMT Male Horizontal Shrouded Header, 4 Pins</b>=>Code : Con_WTB_1.25_PCB_SMT_653104131822 / <br><a href="http://katalog.we-online.de/media/thumbs2/eican/thb_Con_WTB_1.25_PCB_SMT_6531xx131822_pf2.jpg" title="Enlarge picture"> / <img src="http://katalog.we-online.de/media/thumbs2/eican/thb_Con_WTB_1.25_PCB_SMT_6531xx131822_pf2.jpg"  width="320"></a><p> / Details see: <a href="http://katalog.we-online.de/en/em/653_1xx_131_822">http://katalog.we-online.de/en/em/653_1xx_131_822</a><p> / Created 2014-06-06, Karrer Zheng<br> / 2014 (C) Würth Elektronik
footprint 653104131822
pins: 1 4, 2 3, 3 2, 4 1

## 653105124022
designator J?, comment <b>WR-WTB 1.25mm SMT Male Vertical Shrouded Header, 5 Pins</b>=>Code : Con_WTB_1.25_PCB_SMT_653105124022 / <br><a href="http://katalog.we-online.de/media/thumbs2/eican/thb_Con_WTB_1.25_PCB_SMT_6530xx124022_pf2.psd.jpg" title="Enlarge picture"> / <img src="http://katalog.we-online.de/media/thumbs2/eican/thb_Con_WTB_1.25_PCB_SMT_6530xx124022_pf2.psd.jpg"  width="320"></a><p> / Details see: <a href="http://katalog.we-online.de/en/em/653_1xx_124_022">http://katalog.we-online.de/en/em/653_1xx_124_022</a><p> / Created 2014-06-06, Karrer Zheng<br> / 2014 (C) Würth Elektronik
footprint 653105124022
pins: 1, 2, 3, 4, 5

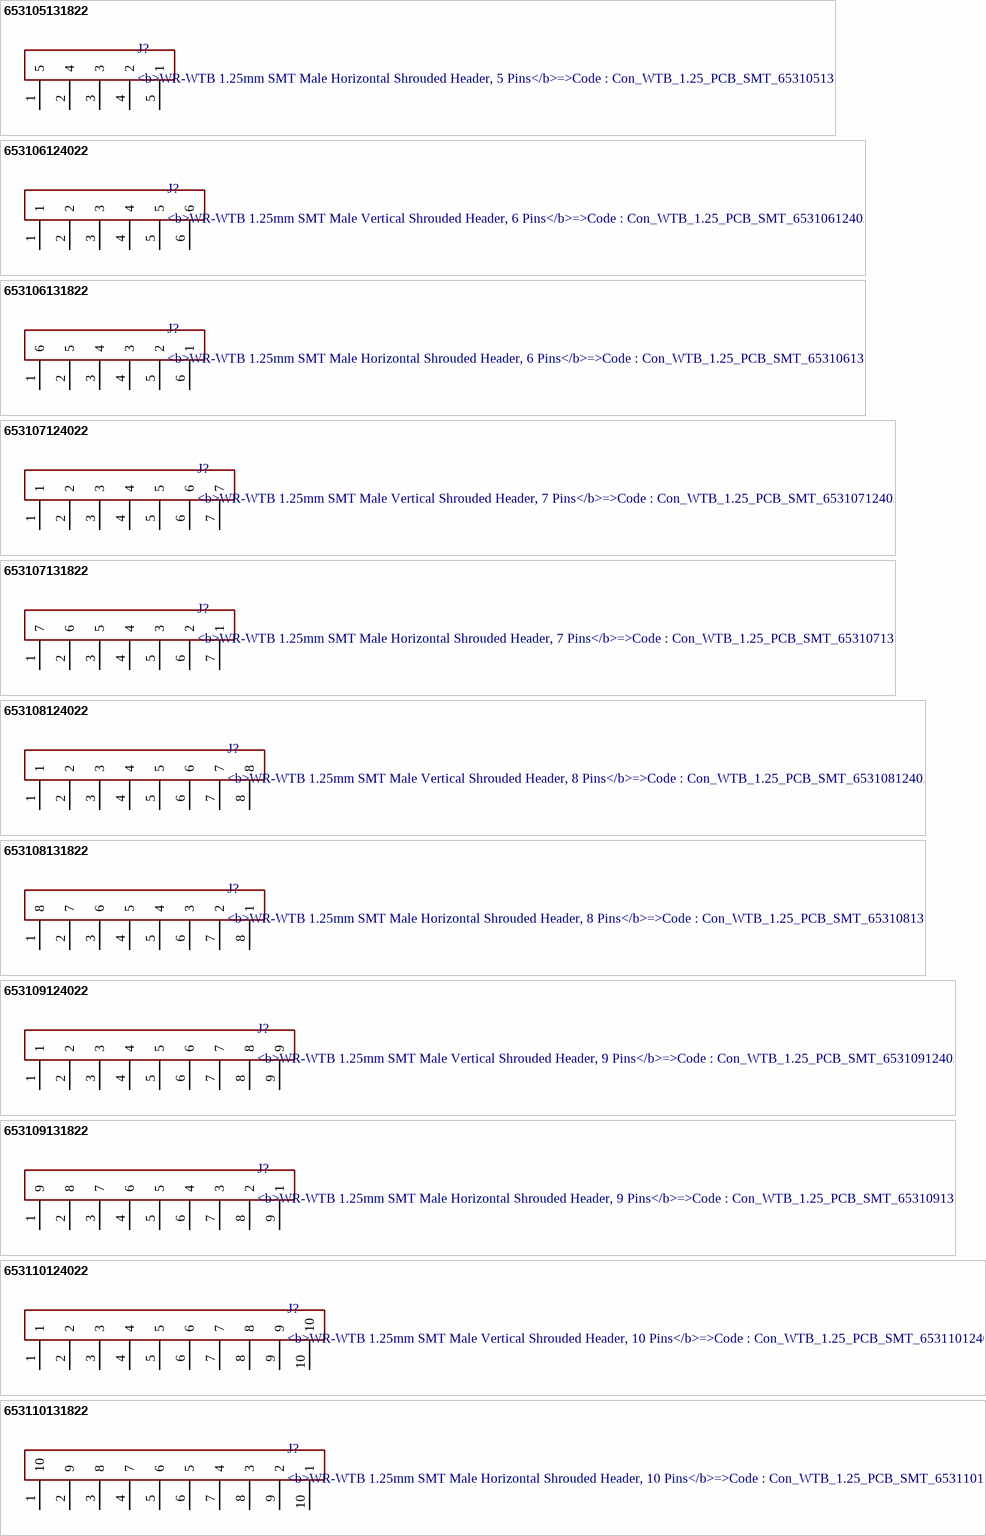
[diagram p49: symbols 653105131822 to 653110131822]

## 653105131822
designator J?, comment <b>WR-WTB 1.25mm SMT Male Horizontal Shrouded Header, 5 Pins</b>=>Code : Con_WTB_1.25_PCB_SMT_653105131822 / <br><a href="http://katalog.we-online.de/media/thumbs2/eican/thb_Con_WTB_1.25_PCB_SMT_6531xx131822_pf2.jpg" title="Enlarge picture"> / <img src="http://katalog.we-online.de/media/thumbs2/eican/thb_Con_WTB_1.25_PCB_SMT_6531xx131822_pf2.jpg"  width="320"></a><p> / Details see: <a href="http://katalog.we-online.de/en/em/653_1xx_131_822">http://katalog.we-online.de/en/em/653_1xx_131_822</a><p> / Created 2014-06-06, Karrer Zheng<br> / 2014 (C) Würth Elektronik
footprint 653105131822
pins: 1 5, 2 4, 3, 4 2, 5 1

## 653106124022
designator J?, comment <b>WR-WTB 1.25mm SMT Male Vertical Shrouded Header, 6 Pins</b>=>Code : Con_WTB_1.25_PCB_SMT_653106124022 / <br><a href="http://katalog.we-online.de/media/thumbs2/eican/thb_Con_WTB_1.25_PCB_SMT_6530xx124022_pf2.psd.jpg" title="Enlarge picture"> / <img src="http://katalog.we-online.de/media/thumbs2/eican/thb_Con_WTB_1.25_PCB_SMT_6530xx124022_pf2.psd.jpg"  width="320"></a><p> / Details see: <a href="http://katalog.we-online.de/en/em/653_1xx_124_022">http://katalog.we-online.de/en/em/653_1xx_124_022</a><p> / Created 2014-06-06, Karrer Zheng<br> / 2014 (C) Würth Elektronik
footprint 653106124022
pins: 1, 2, 3, 4, 5, 6

## 653106131822
designator J?, comment <b>WR-WTB 1.25mm SMT Male Horizontal Shrouded Header, 6 Pins</b>=>Code : Con_WTB_1.25_PCB_SMT_653106131822 / <br><a href="http://katalog.we-online.de/media/thumbs2/eican/thb_Con_WTB_1.25_PCB_SMT_6531xx131822_pf2.jpg" title="Enlarge picture"> / <img src="http://katalog.we-online.de/media/thumbs2/eican/thb_Con_WTB_1.25_PCB_SMT_6531xx131822_pf2.jpg"  width="320"></a><p> / Details see: <a href="http://katalog.we-online.de/en/em/653_1xx_131_822">http://katalog.we-online.de/en/em/653_1xx_131_822</a><p> / Created 2014-06-06, Karrer Zheng<br> / 2014 (C) Würth Elektronik
footprint 653106131822
pins: 1 6, 2 5, 3 4, 4 3, 5 2, 6 1

## 653107124022
designator J?, comment <b>WR-WTB 1.25mm SMT Male Vertical Shrouded Header, 7 Pins</b>=>Code : Con_WTB_1.25_PCB_SMT_653107124022 / <br><a href="http://katalog.we-online.de/media/thumbs2/eican/thb_Con_WTB_1.25_PCB_SMT_6530xx124022_pf2.psd.jpg" title="Enlarge picture"> / <img src="http://katalog.we-online.de/media/thumbs2/eican/thb_Con_WTB_1.25_PCB_SMT_6530xx124022_pf2.psd.jpg"  width="320"></a><p> / Details see: <a href="http://katalog.we-online.de/en/em/653_1xx_124_022">http://katalog.we-online.de/en/em/653_1xx_124_022</a><p> / Created 2014-06-06, Karrer Zheng<br> / 2014 (C) Würth Elektronik
footprint 653107124022
pins: 1, 2, 3, 4, 5, 6, 7

## 653107131822
designator J?, comment <b>WR-WTB 1.25mm SMT Male Horizontal Shrouded Header, 7 Pins</b>=>Code : Con_WTB_1.25_PCB_SMT_653107131822 / <br><a href="http://katalog.we-online.de/media/thumbs2/eican/thb_Con_WTB_1.25_PCB_SMT_6531xx131822_pf2.jpg" title="Enlarge picture"> / <img src="http://katalog.we-online.de/media/thumbs2/eican/thb_Con_WTB_1.25_PCB_SMT_6531xx131822_pf2.jpg"  width="320"></a><p> / Details see: <a href="http://katalog.we-online.de/en/em/653_1xx_131_822">http://katalog.we-online.de/en/em/653_1xx_131_822</a><p> / Created 2014-06-06, Karrer Zheng<br> / 2014 (C) Würth Elektronik
footprint 653107131822
pins: 1 7, 2 6, 3 5, 4, 5 3, 6 2, 7 1

## 653108124022
designator J?, comment <b>WR-WTB 1.25mm SMT Male Vertical Shrouded Header, 8 Pins</b>=>Code : Con_WTB_1.25_PCB_SMT_653108124022 / <br><a href="http://katalog.we-online.de/media/thumbs2/eican/thb_Con_WTB_1.25_PCB_SMT_6530xx124022_pf2.psd.jpg" title="Enlarge picture"> / <img src="http://katalog.we-online.de/media/thumbs2/eican/thb_Con_WTB_1.25_PCB_SMT_6530xx124022_pf2.psd.jpg"  width="320"></a><p> / Details see: <a href="http://katalog.we-online.de/en/em/653_1xx_124_022">http://katalog.we-online.de/en/em/653_1xx_124_022</a><p> / Created 2014-06-06, Karrer Zheng<br> / 2014 (C) Würth Elektronik
footprint 653108124022
pins: 1, 2, 3, 4, 5, 6, 7, 8

## 653108131822
designator J?, comment <b>WR-WTB 1.25mm SMT Male Horizontal Shrouded Header, 8 Pins</b>=>Code : Con_WTB_1.25_PCB_SMT_653108131822 / <br><a href="http://katalog.we-online.de/media/thumbs2/eican/thb_Con_WTB_1.25_PCB_SMT_6531xx131822_pf2.jpg" title="Enlarge picture"> / <img src="http://katalog.we-online.de/media/thumbs2/eican/thb_Con_WTB_1.25_PCB_SMT_6531xx131822_pf2.jpg"  width="320"></a><p> / Details see: <a href="http://katalog.we-online.de/en/em/653_1xx_131_822">http://katalog.we-online.de/en/em/653_1xx_131_822</a><p> / Created 2014-06-06, Karrer Zheng<br> / 2014 (C) Würth Elektronik
footprint 653108131822
pins: 1 8, 2 7, 3 6, 4 5, 5 4, 6 3, 7 2, 8 1

## 653109124022
designator J?, comment <b>WR-WTB 1.25mm SMT Male Vertical Shrouded Header, 9 Pins</b>=>Code : Con_WTB_1.25_PCB_SMT_653109124022 / <br><a href="http://katalog.we-online.de/media/thumbs2/eican/thb_Con_WTB_1.25_PCB_SMT_6530xx124022_pf2.psd.jpg" title="Enlarge picture"> / <img src="http://katalog.we-online.de/media/thumbs2/eican/thb_Con_WTB_1.25_PCB_SMT_6530xx124022_pf2.psd.jpg"  width="320"></a><p> / Details see: <a href="http://katalog.we-online.de/en/em/653_1xx_124_022">http://katalog.we-online.de/en/em/653_1xx_124_022</a><p> / Created 2014-06-06, Karrer Zheng<br> / 2014 (C) Würth Elektronik
footprint 653109124022
pins: 1, 2, 3, 4, 5, 6, 7, 8, 9

## 653109131822
designator J?, comment <b>WR-WTB 1.25mm SMT Male Horizontal Shrouded Header, 9 Pins</b>=>Code : Con_WTB_1.25_PCB_SMT_653109131822 / <br><a href="http://katalog.we-online.de/media/thumbs2/eican/thb_Con_WTB_1.25_PCB_SMT_6531xx131822_pf2.jpg" title="Enlarge picture"> / <img src="http://katalog.we-online.de/media/thumbs2/eican/thb_Con_WTB_1.25_PCB_SMT_6531xx131822_pf2.jpg"  width="320"></a><p> / Details see: <a href="http://katalog.we-online.de/en/em/653_1xx_131_822">http://katalog.we-online.de/en/em/653_1xx_131_822</a><p> / Created 2014-06-06, Karrer Zheng<br> / 2014 (C) Würth Elektronik
footprint 653109131822
pins: 1 9, 2 8, 3 7, 4 6, 5, 6 4, 7 3, 8 2, 9 1

## 653110124022
designator J?, comment <b>WR-WTB 1.25mm SMT Male Vertical Shrouded Header, 10 Pins</b>=>Code : Con_WTB_1.25_PCB_SMT_653110124022 / <br><a href="http://katalog.we-online.de/media/thumbs2/eican/thb_Con_WTB_1.25_PCB_SMT_6530xx124022_pf2.psd.jpg" title="Enlarge picture"> / <img src="http://katalog.we-online.de/media/thumbs2/eican/thb_Con_WTB_1.25_PCB_SMT_6530xx124022_pf2.psd.jpg"  width="320"></a><p> / Details see: <a href="http://katalog.we-online.de/en/em/653_1xx_124_022">http://katalog.we-online.de/en/em/653_1xx_124_022</a><p> / Created 2014-06-06, Karrer Zheng<br> / 2014 (C) Würth Elektronik
footprint 653110124022
pins: 1, 2, 3, 4, 5, 6, 7, 8, 9, 10

## 653110131822
designator J?, comment <b>WR-WTB 1.25mm SMT Male Horizontal Shrouded Header, 10 Pins</b>=>Code : Con_WTB_1.25_PCB_SMT_653110131822 / <br><a href="http://katalog.we-online.de/media/thumbs2/eican/thb_Con_WTB_1.25_PCB_SMT_6531xx131822_pf2.jpg" title="Enlarge picture"> / <img src="http://katalog.we-online.de/media/thumbs2/eican/thb_Con_WTB_1.25_PCB_SMT_6531xx131822_pf2.jpg"  width="320"></a><p> / Details see: <a href="http://katalog.we-online.de/en/em/653_1xx_131_822">http://katalog.we-online.de/en/em/653_1xx_131_822</a><p> / Created 2014-06-06, Karrer Zheng<br> / 2014 (C) Würth Elektronik
footprint 653110131822
pins: 1 10, 2 9, 3 8, 4 7, 5 6, 6 5, 7 4, 8 3, 9 2, 10 1

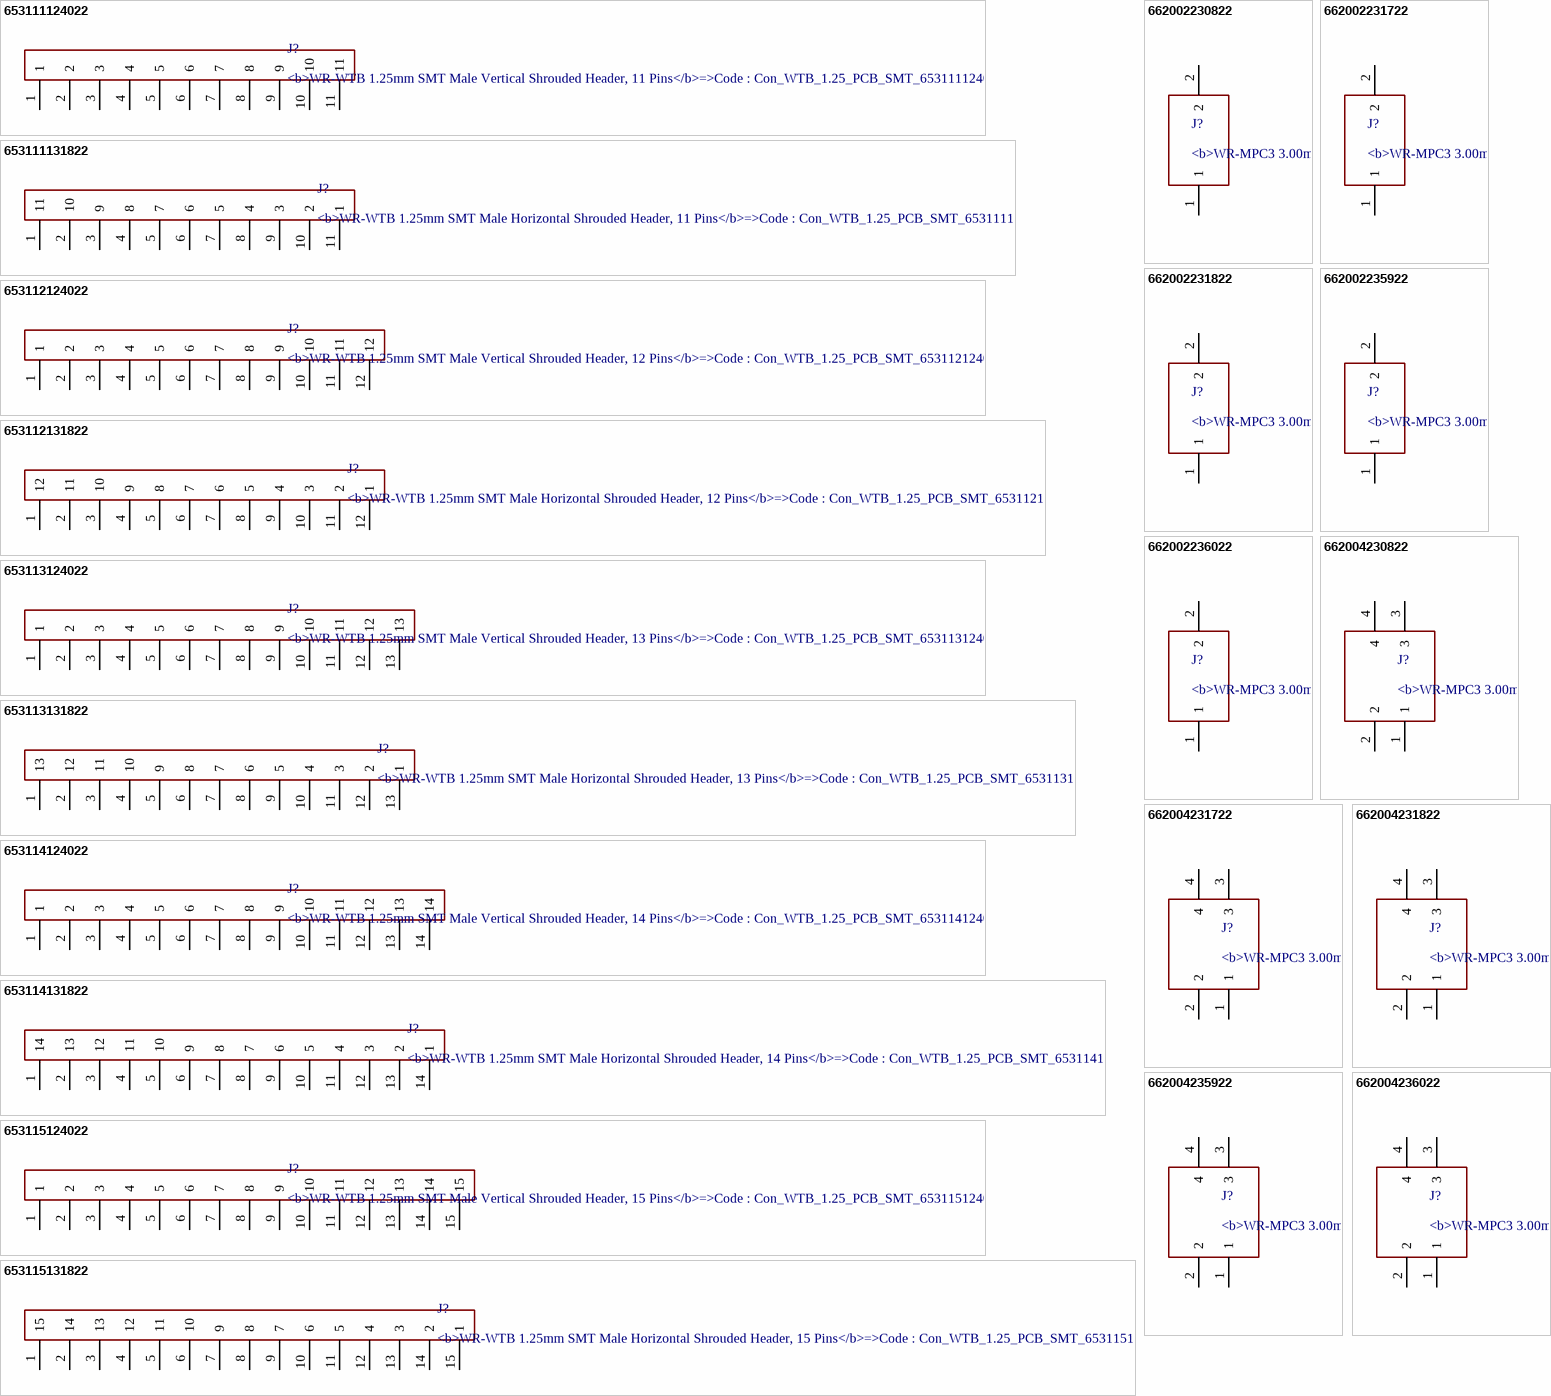
[diagram p50: symbols 653111124022 to 662004236022]

## 653111124022
designator J?, comment <b>WR-WTB 1.25mm SMT Male Vertical Shrouded Header, 11 Pins</b>=>Code : Con_WTB_1.25_PCB_SMT_653111124022 / <br><a href="http://katalog.we-online.de/media/thumbs2/eican/thb_Con_WTB_1.25_PCB_SMT_6530xx124022_pf2.psd.jpg" title="Enlarge picture"> / <img src="http://katalog.we-online.de/media/thumbs2/eican/thb_Con_WTB_1.25_PCB_SMT_6530xx124022_pf2.psd.jpg"  width="320"></a><p> / Details see: <a href="http://katalog.we-online.de/en/em/653_1xx_124_022">http://katalog.we-online.de/en/em/653_1xx_124_022</a><p> / Created 2014-06-06, Karrer Zheng<br> / 2014 (C) Würth Elektronik
footprint 653111124022
pins: 1, 2 (hiz), 3, 4, 5, 6, 7, 8, 9, 10, 11

## 653111131822
designator J?, comment <b>WR-WTB 1.25mm SMT Male Horizontal Shrouded Header, 11 Pins</b>=>Code : Con_WTB_1.25_PCB_SMT_653111131822 / <br><a href="http://katalog.we-online.de/media/thumbs2/eican/thb_Con_WTB_1.25_PCB_SMT_6531xx131822_pf2.jpg" title="Enlarge picture"> / <img src="http://katalog.we-online.de/media/thumbs2/eican/thb_Con_WTB_1.25_PCB_SMT_6531xx131822_pf2.jpg"  width="320"></a><p> / Details see: <a href="http://katalog.we-online.de/en/em/653_1xx_131_822">http://katalog.we-online.de/en/em/653_1xx_131_822</a><p> / Created 2014-06-06, Karrer Zheng<br> / 2014 (C) Würth Elektronik
footprint 653111131822
pins: 1 11, 2 10, 3 9, 4 8, 5 7, 6, 7 5, 8 4, 9 3, 10 2, 11 1

## 653112124022
designator J?, comment <b>WR-WTB 1.25mm SMT Male Vertical Shrouded Header, 12 Pins</b>=>Code : Con_WTB_1.25_PCB_SMT_653112124022 / <br><a href="http://katalog.we-online.de/media/thumbs2/eican/thb_Con_WTB_1.25_PCB_SMT_6530xx124022_pf2.psd.jpg" title="Enlarge picture"> / <img src="http://katalog.we-online.de/media/thumbs2/eican/thb_Con_WTB_1.25_PCB_SMT_6530xx124022_pf2.psd.jpg"  width="320"></a><p> / Details see: <a href="http://katalog.we-online.de/en/em/653_1xx_124_022">http://katalog.we-online.de/en/em/653_1xx_124_022</a><p> / Created 2014-06-06, Karrer Zheng<br> / 2014 (C) Würth Elektronik
footprint 653112124022
pins: 1, 2, 3, 4 (hiz), 5, 6, 7, 8, 9, 10, 11, 12

## 653112131822
designator J?, comment <b>WR-WTB 1.25mm SMT Male Horizontal Shrouded Header, 12 Pins</b>=>Code : Con_WTB_1.25_PCB_SMT_653112131822 / <br><a href="http://katalog.we-online.de/media/thumbs2/eican/thb_Con_WTB_1.25_PCB_SMT_6531xx131822_pf2.jpg" title="Enlarge picture"> / <img src="http://katalog.we-online.de/media/thumbs2/eican/thb_Con_WTB_1.25_PCB_SMT_6531xx131822_pf2.jpg"  width="320"></a><p> / Details see: <a href="http://katalog.we-online.de/en/em/653_1xx_131_822">http://katalog.we-online.de/en/em/653_1xx_131_822</a><p> / Created 2014-06-06, Karrer Zheng<br> / 2014 (C) Würth Elektronik
footprint 653112131822
pins: 1 12, 2 11, 3 10, 4 9, 5 8, 6 7, 7 6, 8 5, 9 4, 10 3, 11 2, 12 1

## 653113124022
designator J?, comment <b>WR-WTB 1.25mm SMT Male Vertical Shrouded Header, 13 Pins</b>=>Code : Con_WTB_1.25_PCB_SMT_653113124022 / <br><a href="http://katalog.we-online.de/media/thumbs2/eican/thb_Con_WTB_1.25_PCB_SMT_6530xx124022_pf2.psd.jpg" title="Enlarge picture"> / <img src="http://katalog.we-online.de/media/thumbs2/eican/thb_Con_WTB_1.25_PCB_SMT_6530xx124022_pf2.psd.jpg"  width="320"></a><p> / Details see: <a href="http://katalog.we-online.de/en/em/653_1xx_124_022">http://katalog.we-online.de/en/em/653_1xx_124_022</a><p> / Created 2014-06-06, Karrer Zheng<br> / 2014 (C) Würth Elektronik
footprint 653113124022
pins: 1, 2, 3, 4, 5, 6, 7, 8, 9, 10, 11, 12, 13

## 653113131822
designator J?, comment <b>WR-WTB 1.25mm SMT Male Horizontal Shrouded Header, 13 Pins</b>=>Code : Con_WTB_1.25_PCB_SMT_653113131822 / <br><a href="http://katalog.we-online.de/media/thumbs2/eican/thb_Con_WTB_1.25_PCB_SMT_6531xx131822_pf2.jpg" title="Enlarge picture"> / <img src="http://katalog.we-online.de/media/thumbs2/eican/thb_Con_WTB_1.25_PCB_SMT_6531xx131822_pf2.jpg"  width="320"></a><p> / Details see: <a href="http://katalog.we-online.de/en/em/653_1xx_131_822">http://katalog.we-online.de/en/em/653_1xx_131_822</a><p> / Created 2014-06-06, Karrer Zheng<br> / 2014 (C) Würth Elektronik
footprint 653113131822
pins: 1 13, 2 12, 3 11, 4 10, 5 9, 6 8, 7, 8 6, 9 5, 10 4, 11 3, 12 2, 13 1

## 653114124022
designator J?, comment <b>WR-WTB 1.25mm SMT Male Vertical Shrouded Header, 14 Pins</b>=>Code : Con_WTB_1.25_PCB_SMT_653114124022 / <br><a href="http://katalog.we-online.de/media/thumbs2/eican/thb_Con_WTB_1.25_PCB_SMT_6530xx124022_pf2.psd.jpg" title="Enlarge picture"> / <img src="http://katalog.we-online.de/media/thumbs2/eican/thb_Con_WTB_1.25_PCB_SMT_6530xx124022_pf2.psd.jpg"  width="320"></a><p> / Details see: <a href="http://katalog.we-online.de/en/em/653_1xx_124_022">http://katalog.we-online.de/en/em/653_1xx_124_022</a><p> / Created 2014-06-06, Karrer Zheng<br> / 2014 (C) Würth Elektronik
footprint 653114124022
pins: 1, 2, 3, 4, 5, 6, 7, 8, 9, 10, 11, 12, 13, 14

## 653114131822
designator J?, comment <b>WR-WTB 1.25mm SMT Male Horizontal Shrouded Header, 14 Pins</b>=>Code : Con_WTB_1.25_PCB_SMT_653114131822 / <br><a href="http://katalog.we-online.de/media/thumbs2/eican/thb_Con_WTB_1.25_PCB_SMT_6531xx131822_pf2.jpg" title="Enlarge picture"> / <img src="http://katalog.we-online.de/media/thumbs2/eican/thb_Con_WTB_1.25_PCB_SMT_6531xx131822_pf2.jpg"  width="320"></a><p> / Details see: <a href="http://katalog.we-online.de/en/em/653_1xx_131_822">http://katalog.we-online.de/en/em/653_1xx_131_822</a><p> / Created 2014-06-06, Karrer Zheng<br> / 2014 (C) Würth Elektronik
footprint 653114131822
pins: 1 14 (hiz), 2 13, 3 12, 4 11, 5 10, 6 9, 7 8, 8 7, 9 6, 10 5, 11 4, 12 3, 13 2, 14 1

## 653115124022
designator J?, comment <b>WR-WTB 1.25mm SMT Male Vertical Shrouded Header, 15 Pins</b>=>Code : Con_WTB_1.25_PCB_SMT_653115124022 / <br><a href="http://katalog.we-online.de/media/thumbs2/eican/thb_Con_WTB_1.25_PCB_SMT_6530xx124022_pf2.psd.jpg" title="Enlarge picture"> / <img src="http://katalog.we-online.de/media/thumbs2/eican/thb_Con_WTB_1.25_PCB_SMT_6530xx124022_pf2.psd.jpg"  width="320"></a><p> / Details see: <a href="http://katalog.we-online.de/en/em/653_1xx_124_022">http://katalog.we-online.de/en/em/653_1xx_124_022</a><p> / Created 2014-06-06, Karrer Zheng<br> / 2014 (C) Würth Elektronik
footprint 653115124022
pins: 1, 2, 3, 4, 5, 6, 7, 8, 9, 10, 11, 12, 13, 14, 15

## 653115131822
designator J?, comment <b>WR-WTB 1.25mm SMT Male Horizontal Shrouded Header, 15 Pins</b>=>Code : Con_WTB_1.25_PCB_SMT_653115131822 / <br><a href="http://katalog.we-online.de/media/thumbs2/eican/thb_Con_WTB_1.25_PCB_SMT_6531xx131822_pf2.jpg" title="Enlarge picture"> / <img src="http://katalog.we-online.de/media/thumbs2/eican/thb_Con_WTB_1.25_PCB_SMT_6531xx131822_pf2.jpg"  width="320"></a><p> / Details see: <a href="http://katalog.we-online.de/en/em/653_1xx_131_822">http://katalog.we-online.de/en/em/653_1xx_131_822</a><p> / Created 2014-06-06, Karrer Zheng<br> / 2014 (C) Würth Elektronik
footprint 653115131822
pins: 1 15, 2 14, 3 13, 4 12, 5 11, 6 10, 7 9, 8, 9 7, 10 6, 11 5, 12 4, 13 3, 14 2, 15 1

## 662002230822
designator J?, comment <b>WR-MPC3 3.00mm Male Dual Row SMT Angled Header Through Hole Retention Clip, 2 Pins</b>=>Code : Con_WTB_MPC3_2_PCB_SMT_662002230822 / <br><a href="http://katalog.we-online.de/media/thumbs2/eican/thb_Con_WTB_MPC3_2_PCB_SMT_6620xx230822_pf2.jpg" title="Enlarge picture"> / <img src="http://katalog.we-online.de/media/thumbs2/eican/thb_Con_WTB_MPC3_2_PCB_SMT_6620xx230822_pf2.jpg"  width="320"></a><p> / Details see: <a href="http://katalog.we-online.de/en/em/662_0xx_230_822">http://katalog.we-online.de/en/em/662_0xx_230_822</a><p> / Created 2014-06-06, Karrer Zheng<br> / 2014 (C) Würth Elektronik
footprint 662002230822
pins: 1, 2

## 662002231722
designator J?, comment <b>WR-MPC3 3.00mm Male Dual Row SMT Angled Header SMT Fitting Nail Clip, 2 Pins</b>=>Code : Con_WTB_MPC3_2_PCB_SMT_662002231722 / <br><a href="http://katalog.we-online.de/media/thumbs2/eican/thb_Con_WTB_MPC3_2_PCB_SMT_6620xx231722_pf2.jpg" title="Enlarge picture"> / <img src="http://katalog.we-online.de/media/thumbs2/eican/thb_Con_WTB_MPC3_2_PCB_SMT_6620xx231722_pf2.jpg"  width="320"></a><p> / Details see: <a href="http://katalog.we-online.de/en/em/662_0xx_231_722">http://katalog.we-online.de/en/em/662_0xx_231_722</a><p> / Created 2014-06-06, Karrer Zheng<br> / 2014 (C) Würth Elektronik
footprint 662002231722
pins: 1, 2

## 662002231822
designator J?, comment <b>WR-MPC3 3.00mm Male Dual Row SMT Vertical Header with SMT Fitting Nail, 2 Pins</b>=>Code : Con_WTB_MPC3_2_PCB_SMT_662002231822 / <br><a href="http://katalog.we-online.de/media/thumbs2/eican/thb_Con_WTB_MPC3_2_PCB_SMT_6620xx231822_pf2.jpg" title="Enlarge picture"> / <img src="http://katalog.we-online.de/media/thumbs2/eican/thb_Con_WTB_MPC3_2_PCB_SMT_6620xx231822_pf2.jpg"  width="320"></a><p> / Details see: <a href="http://katalog.we-online.de/en/em/662_0xx_231_822">http://katalog.we-online.de/en/em/662_0xx_231_822</a><p> / Created 2014-06-06, Karrer Zheng<br> / 2014 (C) Würth Elektronik
footprint 662002231822
pins: 1, 2

## 662002235922
designator J?, comment <b>WR-MPC3 3.00mm Male Dual Row SMT Vertical Header with Through Hole Retention Clip, 2 Pins</b>=>Code : Con_WTB_MPC3_2_PCB_SMT_662002235922 / <br><a href="http://katalog.we-online.de/media/thumbs2/eican/thb_Con_WTB_MPC3_2_PCB_SMT_6620xx235922_pf2.jpg" title="Enlarge picture"> / <img src="http://katalog.we-online.de/media/thumbs2/eican/thb_Con_WTB_MPC3_2_PCB_SMT_6620xx235922_pf2.jpg"  width="320"></a><p> / Details see: <a href="http://katalog.we-online.de/en/em/662_0xx_235_922">http://katalog.we-online.de/en/em/662_0xx_235_922</a><p> / Created 2014-06-06, Karrer Zheng<br> / 2014 (C) Würth Elektronik
footprint 662002235922
pins: 1, 2

## 662002236022
designator J?, comment <b>WR-MPC3 3.00mm Male Dual Row SMT Angled Header with Plastic Pegs, 2 Pins</b>=>Code : Con_WTB_MPC3_2_PCB_SMT_662002236022 / <br><a href="http://katalog.we-online.de/media/thumbs2/eican/thb_Con_WTB_MPC3_2_PCB_SMT_6620xx236022_pf2.jpg" title="Enlarge picture"> / <img src="http://katalog.we-online.de/media/thumbs2/eican/thb_Con_WTB_MPC3_2_PCB_SMT_6620xx236022_pf2.jpg"  width="320"></a><p> / Details see: <a href="http://katalog.we-online.de/en/em/662_0xx_236_022">http://katalog.we-online.de/en/em/662_0xx_236_022</a><p> / Created 2014-06-06, Karrer Zheng<br> / 2014 (C) Würth Elektronik
footprint 662002236022
pins: 1, 2

## 662004230822
designator J?, comment <b>WR-MPC3 3.00mm Male Dual Row SMT Angled Header Through Hole Retention Clip, 4 Pins</b>=>Code : Con_WTB_MPC3_2_PCB_SMT_662004230822 / <br><a href="http://katalog.we-online.de/media/thumbs2/eican/thb_Con_WTB_MPC3_2_PCB_SMT_6620xx230822_pf2.jpg" title="Enlarge picture"> / <img src="http://katalog.we-online.de/media/thumbs2/eican/thb_Con_WTB_MPC3_2_PCB_SMT_6620xx230822_pf2.jpg"  width="320"></a><p> / Details see: <a href="http://katalog.we-online.de/en/em/662_0xx_230_822">http://katalog.we-online.de/en/em/662_0xx_230_822</a><p> / Created 2014-06-06, Karrer Zheng<br> / 2014 (C) Würth Elektronik
footprint 662004230822
pins: 1, 2, 3, 4

## 662004231722
designator J?, comment <b>WR-MPC3 3.00mm Male Dual Row SMT Angled Header SMT Fitting Nail Clip, 4 Pins</b>=>Code : Con_WTB_MPC3_2_PCB_SMT_662004231722 / <br><a href="http://katalog.we-online.de/media/thumbs2/eican/thb_Con_WTB_MPC3_2_PCB_SMT_6620xx231722_pf2.jpg" title="Enlarge picture"> / <img src="http://katalog.we-online.de/media/thumbs2/eican/thb_Con_WTB_MPC3_2_PCB_SMT_6620xx231722_pf2.jpg"  width="320"></a><p> / Details see: <a href="http://katalog.we-online.de/en/em/662_0xx_231_722">http://katalog.we-online.de/en/em/662_0xx_231_722</a><p> / Created 2014-06-06, Karrer Zheng<br> / 2014 (C) Würth Elektronik
footprint 662004231722
pins: 1, 2, 3, 4

## 662004231822
designator J?, comment <b>WR-MPC3 3.00mm Male Dual Row SMT Vertical Header with SMT Fitting Nail, 4 Pins</b>=>Code : Con_WTB_MPC3_2_PCB_SMT_662004231822 / <br><a href="http://katalog.we-online.de/media/thumbs2/eican/thb_Con_WTB_MPC3_2_PCB_SMT_6620xx231822_pf2.jpg" title="Enlarge picture"> / <img src="http://katalog.we-online.de/media/thumbs2/eican/thb_Con_WTB_MPC3_2_PCB_SMT_6620xx231822_pf2.jpg"  width="320"></a><p> / Details see: <a href="http://katalog.we-online.de/en/em/662_0xx_231_822">http://katalog.we-online.de/en/em/662_0xx_231_822</a><p> / Created 2014-06-06, Karrer Zheng<br> / 2014 (C) Würth Elektronik
footprint 662004231822
pins: 1, 2, 3, 4

## 662004235922
designator J?, comment <b>WR-MPC3 3.00mm Male Dual Row SMT Vertical Header with Through Hole Retention Clip, 4 Pins</b>=>Code : Con_WTB_MPC3_2_PCB_SMT_662004235922 / <br><a href="http://katalog.we-online.de/media/thumbs2/eican/thb_Con_WTB_MPC3_2_PCB_SMT_6620xx235922_pf2.jpg" title="Enlarge picture"> / <img src="http://katalog.we-online.de/media/thumbs2/eican/thb_Con_WTB_MPC3_2_PCB_SMT_6620xx235922_pf2.jpg"  width="320"></a><p> / Details see: <a href="http://katalog.we-online.de/en/em/662_0xx_235_922">http://katalog.we-online.de/en/em/662_0xx_235_922</a><p> / Created 2014-06-06, Karrer Zheng<br> / 2014 (C) Würth Elektronik
footprint 662004235922
pins: 1, 2, 3, 4